# EAGLE library part LTC4413 (library ideal-diodes)
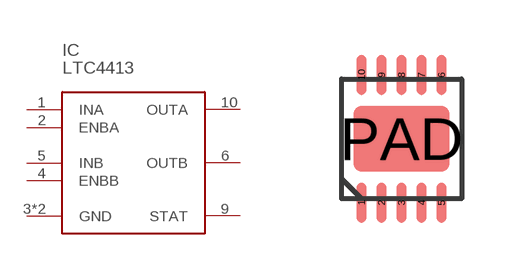
[diagram p0: symbol with the pads of DFN10; footprint DFN10]

Designator prefix IC

## LTC4413  [DFN10]
1  INA
2  ENBA
3  GND
4  ENBB
5  INB
6  OUTB
9  STAT
10  OUTA
PAD  GND

## Footprint DFN10 (pad centres in mm)
smd 0.25 x 1: 1 -1,-1.6; 2 -0.5,-1.6; 3 0,-1.6; 4 0.5,-1.6; 5 1,-1.6; 6 1,1.6; 7 0.5,1.6; 8 0,1.6; 9 -0.5,1.6; 10 -1,1.6
smd 2.4 x 1.65: PAD 0,0